# Altium footprint library Chip-Resistor-500.PcbLib: 1 footprints
Each footprint in its own frame and in the unit in brackets; x right, y up, seen from the top. Pads: shape width x height; smd on the part's side, far side on the other; paste and mask are expansions set on the pad; w line width, h text height; cw(c..) or ccw(c..) is an arc to the next point about the centre after c.
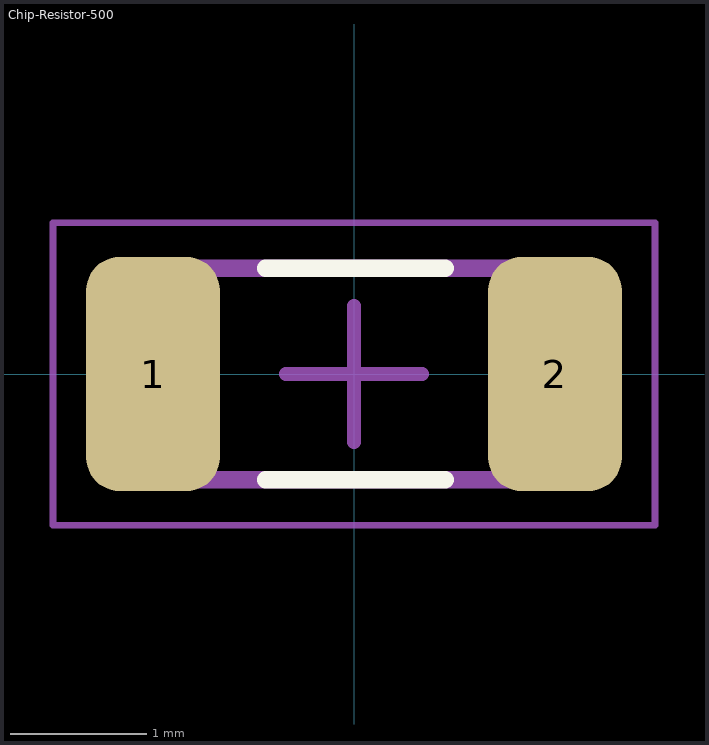
[diagram p0: the footprint, top view; thin cyan lines are the x and y axes]

## Chip-Resistor-500 [mm]
pads (2):
  rrect50% 0.98x1.72 smd paste+0 mask+0.102: 1(-1.475,0) 2(1.475,0)
Top Overlay:
  lines w0.127: -0.65,-0.775 0.67,-0.775 ; -0.65,0.775 0.67,0.775
Top 3D Body:
  lines w0.127: -1.55,-0.775 -1.55,0.775 1.55,0.775 1.55,-0.775 -1.55,-0.775
Top Courtyard:
  lines w0.05: -2.21,-1.11 2.21,-1.11 2.21,1.11 -2.21,1.11 -2.21,-1.11
  lines w0.1: -0.5,0 0.5,0 ; 0,-0.5 0,0.5
Top Designator (Mech29):
  text ".Designator" at 0.167,-2.499 h0.5
3D body "step_temp.STEP": height 0.65, standoff 0, extent -1.525,-0.775 1.525,0.775